# EAGLE library part AS-ITM-00079 (library tinycircuits)
TI SimpleLink™ CC3000 Module – Wi-Fi 802.11b/g Network Processor
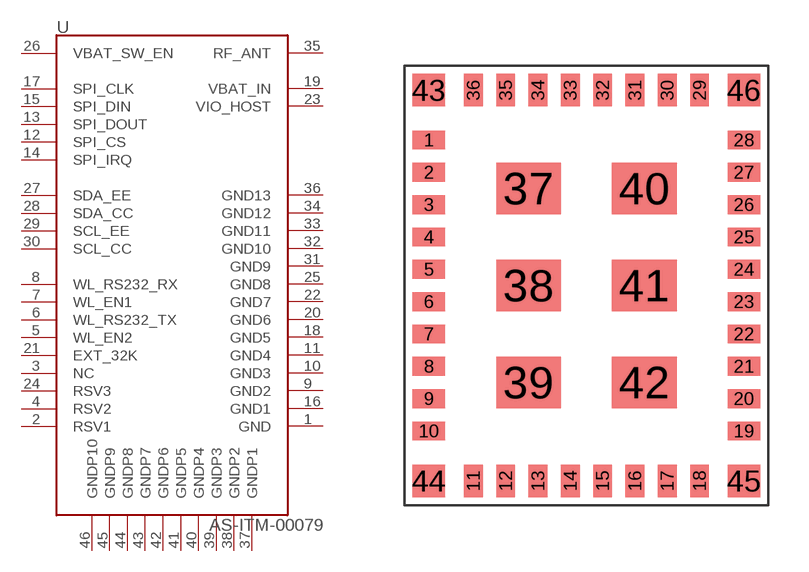
[diagram p30: symbol with the pads of CC3000MOD; footprint CC3000MOD]

Designator prefix U

## AS-ITM-00079 (PARTNO: AS_ITM-00079; VALUE: C3000MOD)  [CC3000MOD]
1  GND
2  RSV1
3  NC
4  RSV2
5  WL_EN2
6  WL_RS232_TX
7  WL_EN1
8  WL_RS232_RX
9  GND2
10  GND3
11  GND4
12  SPI_CS
13  SPI_DOUT
14  SPI_IRQ
15  SPI_DIN
16  GND1
17  SPI_CLK
18  GND5
19  VBAT_IN
20  GND6
21  EXT_32K
22  GND7
23  VIO_HOST
24  RSV3
25  GND8
26  VBAT_SW_EN
27  SDA_EE
28  SDA_CC
29  SCL_EE
30  SCL_CC
31  GND9
32  GND10
33  GND11
34  GND12
35  RF_ANT
36  GND13
37  GNDP1
38  GNDP2
39  GNDP3
40  GNDP4
41  GNDP5
42  GNDP6
43  GNDP7
44  GNDP8
45  GNDP9
46  GNDP10

## Footprint CC3000MOD (pad centres in mm)
smd 1.2 x 0.7: 1 -5.9,5.55; 2 -5.9,4.35; 3 -5.9,3.15; 4 -5.9,1.95; 5 -5.9,0.75; 6 -5.9,-0.45; 7 -5.9,-1.65; 8 -5.9,-2.85; 9 -5.9,-4.05; 10 -5.9,-5.25; 19 5.8,-5.25; 20 5.8,-4.05; 21 5.8,-2.85; 22 5.8,-1.65; 23 5.8,-0.45; 24 5.8,0.75; 25 5.8,1.95; 26 5.8,3.15; 27 5.8,4.35; 28 5.8,5.55
smd 0.7 x 1.2: 11 -4.25,-7.1; 12 -3.05,-7.1; 13 -1.85,-7.1; 14 -0.65,-7.1; 15 0.55,-7.1; 16 1.75,-7.1; 17 2.95,-7.1; 18 4.15,-7.1; 29 4.15,7.4; 30 2.95,7.4; 31 1.75,7.4; 32 0.55,7.4; 33 -0.65,7.4; 34 -1.85,7.4; 35 -3.05,7.4; 36 -4.25,7.4
smd 2.4 x 1.9: 37 -2.2,3.75; 38 -2.2,0.15; 39 -2.2,-3.45; 40 2.1,3.75; 41 2.1,0.15; 42 2.1,-3.45
smd 1.2 x 1.2: 43 -5.9,7.4; 44 -5.9,-7.1; 45 5.8,-7.1; 46 5.8,7.4